# EAGLE library part MAINBOARD_6PLE (library isysbus_modulsystem)
WAGO SREW CLAMP
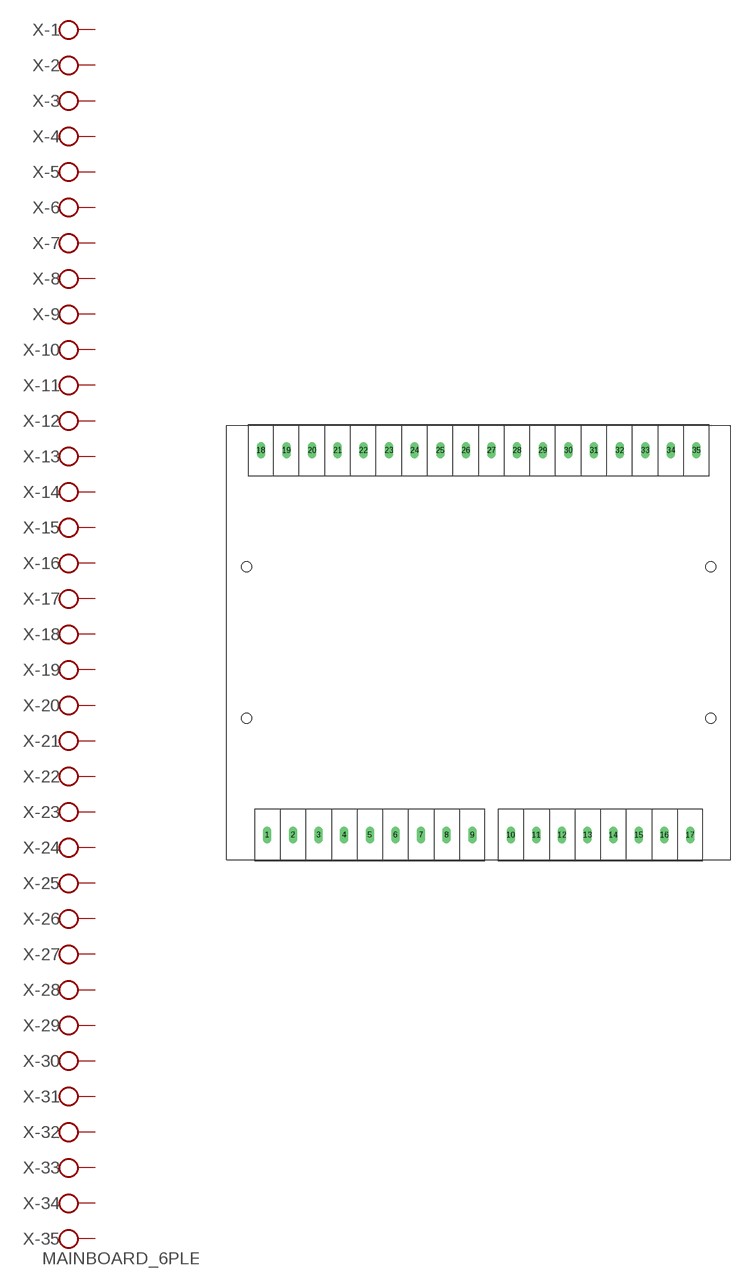
[diagram p0: symbol with the pads of HUT_6PLE_UNTEN; footprint HUT_6PLE_UNTEN]

Designator prefix X; gates -1=KL -2=KL -3=KL -4=KL -5=KL -6=KL -7=KL -8=KL -35=KL+V -9=KL -10=KL -11=KL -12=KL -13=KL -14=KL -15=KL -16=KL -17=KL -18=KL -19=KL -20=KL -21=KL -22=KL -23=KL -24=KL -25=KL -26=KL -27=KL -28=KL -29=KL -30=KL -31=KL -32=KL -33=KL -34=KL

## MAINBOARD_6PLE  [HUT_6PLE_UNTEN]
1  -1:KL  pas
2  -2:KL  pas
3  -3:KL  pas
4  -4:KL  pas
5  -5:KL  pas
6  -6:KL  pas
7  -7:KL  pas
8  -8:KL  pas
9  -9:KL  pas
10  -10:KL  pas
11  -11:KL  pas
12  -12:KL  pas
13  -13:KL  pas
14  -14:KL  pas
15  -15:KL  pas
16  -16:KL  pas
17  -17:KL  pas
18  -18:KL  pas
19  -19:KL  pas
20  -20:KL  pas
21  -21:KL  pas
22  -22:KL  pas
23  -23:KL  pas
24  -24:KL  pas
25  -25:KL  pas
26  -26:KL  pas
27  -27:KL  pas
28  -28:KL  pas
29  -29:KL  pas
30  -30:KL  pas
31  -31:KL  pas
32  -32:KL  pas
33  -33:KL  pas
34  -34:KL  pas
35  -35:KL  pas

## Footprint HUT_6PLE_UNTEN (pad centres in mm)
drill 1.1 long: 1 -41.91,-38.1; 2 -36.83,-38.1; 3 -31.75,-38.1; 4 -26.67,-38.1; 5 -21.59,-38.1; 6 -16.51,-38.1; 7 -11.43,-38.1; 8 -6.35,-38.1; 9 -1.27,-38.1; 10 6.35,-38.1; 11 11.43,-38.1; 12 16.51,-38.1; 13 21.59,-38.1; 14 26.67,-38.1; 15 31.75,-38.1; 16 36.83,-38.1; 17 41.91,-38.1; 18 -43.18,38.1; 19 -38.1,38.1; 20 -33.02,38.1; 21 -27.94,38.1; 22 -22.86,38.1; 23 -17.78,38.1; 24 -12.7,38.1; 25 -7.62,38.1; 26 -2.54,38.1; 27 2.54,38.1; 28 7.62,38.1; 29 12.7,38.1; 30 17.78,38.1; 31 22.86,38.1; 32 27.94,38.1; 33 33.02,38.1; 34 38.1,38.1; 35 43.18,38.1
hole 2 at -46,-15
hole 2 at -46,15
hole 2 at 46,15
hole 2 at 46,-15